# Altium integrated library Linear Technology PMIC-Switching Reg LT1074-LT8705.IntLib: 2252 symbols (part 31 of 124)
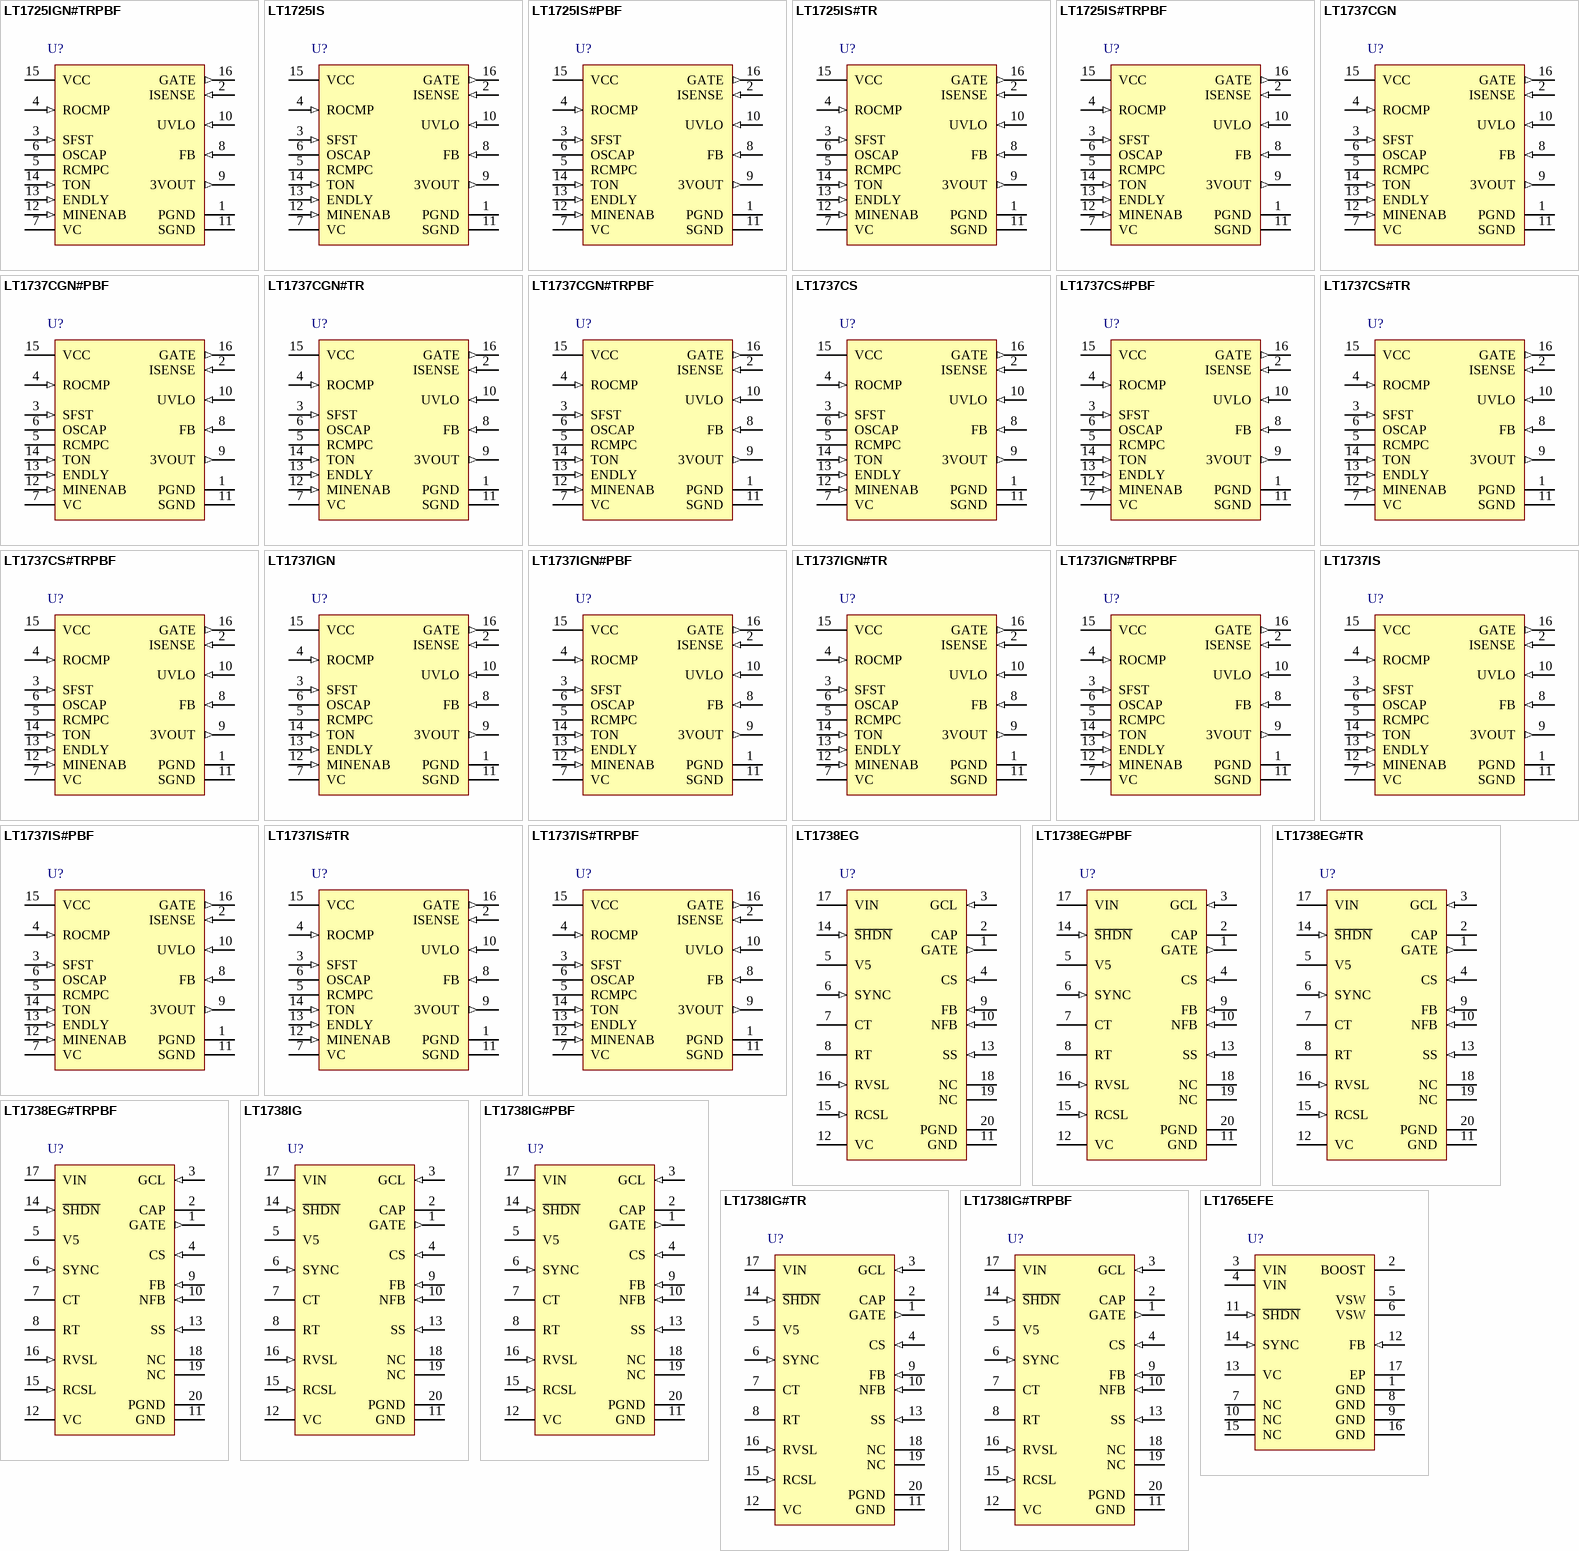
[diagram p101: symbols LT1725IGN#TRPBF to LT1765EFE]

## LT1737CGN#TR
designator U?
High Power Isolated Flyback Controller, 16-pin SOP (GN-16), 0 to 100 degC, Tape and Reel; Manufacturer: Linear Technology; PartNumber: LT1737CGN#TR; Number of Outputs: 1; PackageReference: GN-16; PackageDescription: 16-Pin Plastic SSOP, Body 4.9 x 3.9 mm, Pitch 0.635 mm; Supplier 1: Digi-Key; Supplier Part Number 1: LT1737CGN#TR-ND; RoHS: FALSE
footprint LT-GN-16_N (SOP, 16-Leads, Body 5x4mm, Pitch 0.635mm, IPC Medium Density)
footprint LT-GN-16_L (SOP, 16-Leads, Body 5x4mm, Pitch 0.635mm, IPC High Density)
footprint LT-GN-16_M (SOP, 16-Leads, Body 5x4mm, Pitch 0.635mm, IPC Low Density)
pins: 1 PGND (power) "The power ground pin carries the GATE node discharge current. This is typically a current spike of several hundred mA with a duration of tens of nanoseconds. It should be connected directly to a good quality ground plane.", 2 ISENSE (in) "Pin to measure switch current with external sense resistor. The sense resistor should be of a noninductive construction as high speed performance is essential. Proper grounding technique is also required to avoid distortion (See Datasheet)", 3 SFST (in) "Pin for optional external capacitor to effect soft-start function. See Applications Information for details.", 4 ROCMP (in) "Input pin for optional external load compensation resistor. Use of this pin allows nominal compensation for nonzero output impedance in the power transformer secondary circuit, including secondary winding impedance, output (See Datasheet)", 5 RCMPC "Pin for external filter capacitor for optional load compensation function. A common 0.1uF ceramic capacitor will suffice for most applications. See Applications Information for further details.", 6 OSCAP "Pin for external timing capacitor to set oscillator switching frequency. See Applications Information for details.", 7 VC "This is the control voltage pin which is the output of the feedback amplifier and the input of the current comparator. Frequency compensation of the overall loop is effected in most cases by placing a capacitor between this (See Datasheet)", 8 FB (in) "Input pin for external ¡°feedback¡± resistor divider. The ratio of this divider, times the internal bandgap (VBG) reference, times the effective output tothird winding transformer turns ratio is the primary determinant(See Datasheet)", 9 3VOUT (out) "Output pin for nominal 3V reference. This facilitates various user applications. This node is internally current limited for protection and is intended to drive either moderate capacitive loads of several hundred pF or less, (See Datasheet)", 10 UVLO (in), 11 SGND (power) "The signal ground pin is a clean ground. The internal reference, oscillator and feedback amplifier are referred to it. Keep the ground path connection to the FB pin, OSCAP capacitor and the VC compensation capacitor free of (See Datasheet)", 12 MINENAB (in) "Pin for external programming resistor to set minimum enable time. See Applications Information for details.", 13 ENDLY (in) "Pin for external programming resistor to set enable delay time. See Applications Information for details.", 14 TON (in) "Pin for external programming resistor to set switch minimum on time. See Applications Information for details.", 15 VCC (power), 16 GATE (out) "This is the gate drive to the external power MOSFET switch and has large dynamic currents flowing through it. Keep the trace to the MOSFET as short as possible to minimize electromagnetic radiation and voltage spikes. A (See Datasheet)"

## LT1737CGN#TRPBF
designator U?
High Power Isolated Flyback Controller, 16-pin SOP (GN-16), 0 to 100 degC, Pb-Free, Tape and Reel; Manufacturer: Linear Technology; PartNumber: LT1737CGN#TRPBF; Number of Outputs: 1; PackageReference: GN-16; PackageDescription: 16-Pin Plastic SSOP, Body 4.9 x 3.9 mm, Pitch 0.635 mm; Supplier 1: Digi-Key; Supplier Part Number 1: LT1737CGN#TRPBF-ND; RoHS: TRUE
footprint LT-GN-16_N (SOP, 16-Leads, Body 5x4mm, Pitch 0.635mm, IPC Medium Density)
footprint LT-GN-16_L (SOP, 16-Leads, Body 5x4mm, Pitch 0.635mm, IPC High Density)
footprint LT-GN-16_M (SOP, 16-Leads, Body 5x4mm, Pitch 0.635mm, IPC Low Density)
pins: 1 PGND (power) "The power ground pin carries the GATE node discharge current. This is typically a current spike of several hundred mA with a duration of tens of nanoseconds. It should be connected directly to a good quality ground plane.", 2 ISENSE (in) "Pin to measure switch current with external sense resistor. The sense resistor should be of a noninductive construction as high speed performance is essential. Proper grounding technique is also required to avoid distortion (See Datasheet)", 3 SFST (in) "Pin for optional external capacitor to effect soft-start function. See Applications Information for details.", 4 ROCMP (in) "Input pin for optional external load compensation resistor. Use of this pin allows nominal compensation for nonzero output impedance in the power transformer secondary circuit, including secondary winding impedance, output (See Datasheet)", 5 RCMPC "Pin for external filter capacitor for optional load compensation function. A common 0.1uF ceramic capacitor will suffice for most applications. See Applications Information for further details.", 6 OSCAP "Pin for external timing capacitor to set oscillator switching frequency. See Applications Information for details.", 7 VC "This is the control voltage pin which is the output of the feedback amplifier and the input of the current comparator. Frequency compensation of the overall loop is effected in most cases by placing a capacitor between this (See Datasheet)", 8 FB (in) "Input pin for external ¡°feedback¡± resistor divider. The ratio of this divider, times the internal bandgap (VBG) reference, times the effective output tothird winding transformer turns ratio is the primary determinant(See Datasheet)", 9 3VOUT (out) "Output pin for nominal 3V reference. This facilitates various user applications. This node is internally current limited for protection and is intended to drive either moderate capacitive loads of several hundred pF or less, (See Datasheet)", 10 UVLO (in), 11 SGND (power) "The signal ground pin is a clean ground. The internal reference, oscillator and feedback amplifier are referred to it. Keep the ground path connection to the FB pin, OSCAP capacitor and the VC compensation capacitor free of (See Datasheet)", 12 MINENAB (in) "Pin for external programming resistor to set minimum enable time. See Applications Information for details.", 13 ENDLY (in) "Pin for external programming resistor to set enable delay time. See Applications Information for details.", 14 TON (in) "Pin for external programming resistor to set switch minimum on time. See Applications Information for details.", 15 VCC (power), 16 GATE (out) "This is the gate drive to the external power MOSFET switch and has large dynamic currents flowing through it. Keep the trace to the MOSFET as short as possible to minimize electromagnetic radiation and voltage spikes. A (See Datasheet)"

## LT1737CS
designator U?
High Power Isolated Flyback Controller, 16-pin SOP (S-16), 0 to 100 degC; Manufacturer: Linear Technology; PartNumber: LT1737CS; Number of Outputs: 1; PackageReference: S-16; PackageDescription: 16-Pin Plastic Small Outline, Body 9.9 x 3.9 mm, Pitch 1.27 mm; Supplier 1: Digi-Key; Supplier Part Number 1: LT1737CS-ND; RoHS: FALSE
footprint LT-S-16_N (SOP, 16-Leads, Body 10x4mm, Pitch 1.27mm, IPC Medium Density)
footprint LT-S-16_L (SOP, 16-Leads, Body 10x4mm, Pitch 1.27mm, IPC High Density)
footprint LT-S-16_M (SOP, 16-Leads, Body 10x4mm, Pitch 1.27mm, IPC Low Density)
pins: 1 PGND (power) "The power ground pin carries the GATE node discharge current. This is typically a current spike of several hundred mA with a duration of tens of nanoseconds. It should be connected directly to a good quality ground plane.", 2 ISENSE (in) "Pin to measure switch current with external sense resistor. The sense resistor should be of a noninductive construction as high speed performance is essential. Proper grounding technique is also required to avoid distortion (See Datasheet)", 3 SFST (in) "Pin for optional external capacitor to effect soft-start function. See Applications Information for details.", 4 ROCMP (in) "Input pin for optional external load compensation resistor. Use of this pin allows nominal compensation for nonzero output impedance in the power transformer secondary circuit, including secondary winding impedance, output (See Datasheet)", 5 RCMPC "Pin for external filter capacitor for optional load compensation function. A common 0.1uF ceramic capacitor will suffice for most applications. See Applications Information for further details.", 6 OSCAP "Pin for external timing capacitor to set oscillator switching frequency. See Applications Information for details.", 7 VC "This is the control voltage pin which is the output of the feedback amplifier and the input of the current comparator. Frequency compensation of the overall loop is effected in most cases by placing a capacitor between this (See Datasheet)", 8 FB (in) "Input pin for external ¡°feedback¡± resistor divider. The ratio of this divider, times the internal bandgap (VBG) reference, times the effective output tothird winding transformer turns ratio is the primary determinant(See Datasheet)", 9 3VOUT (out) "Output pin for nominal 3V reference. This facilitates various user applications. This node is internally current limited for protection and is intended to drive either moderate capacitive loads of several hundred pF or less, (See Datasheet)", 10 UVLO (in), 11 SGND (power) "The signal ground pin is a clean ground. The internal reference, oscillator and feedback amplifier are referred to it. Keep the ground path connection to the FB pin, OSCAP capacitor and the VC compensation capacitor free of (See Datasheet)", 12 MINENAB (in) "Pin for external programming resistor to set minimum enable time. See Applications Information for details.", 13 ENDLY (in) "Pin for external programming resistor to set enable delay time. See Applications Information for details.", 14 TON (in) "Pin for external programming resistor to set switch minimum on time. See Applications Information for details.", 15 VCC (power), 16 GATE (out) "This is the gate drive to the external power MOSFET switch and has large dynamic currents flowing through it. Keep the trace to the MOSFET as short as possible to minimize electromagnetic radiation and voltage spikes. A (See Datasheet)"

## LT1737CS#PBF
designator U?
High Power Isolated Flyback Controller, 16-pin SOP (S-16), 0 to 100 degC, Pb-Free; Manufacturer: Linear Technology; PartNumber: LT1737CS#PBF; Number of Outputs: 1; PackageReference: S-16; PackageDescription: 16-Pin Plastic Small Outline, Body 9.9 x 3.9 mm, Pitch 1.27 mm; Supplier 1: Digi-Key; Supplier Part Number 1: LT1737CS#PBF-ND; RoHS: TRUE
footprint LT-S-16_N (SOP, 16-Leads, Body 10x4mm, Pitch 1.27mm, IPC Medium Density)
footprint LT-S-16_L (SOP, 16-Leads, Body 10x4mm, Pitch 1.27mm, IPC High Density)
footprint LT-S-16_M (SOP, 16-Leads, Body 10x4mm, Pitch 1.27mm, IPC Low Density)
pins: 1 PGND (power) "The power ground pin carries the GATE node discharge current. This is typically a current spike of several hundred mA with a duration of tens of nanoseconds. It should be connected directly to a good quality ground plane.", 2 ISENSE (in) "Pin to measure switch current with external sense resistor. The sense resistor should be of a noninductive construction as high speed performance is essential. Proper grounding technique is also required to avoid distortion (See Datasheet)", 3 SFST (in) "Pin for optional external capacitor to effect soft-start function. See Applications Information for details.", 4 ROCMP (in) "Input pin for optional external load compensation resistor. Use of this pin allows nominal compensation for nonzero output impedance in the power transformer secondary circuit, including secondary winding impedance, output (See Datasheet)", 5 RCMPC "Pin for external filter capacitor for optional load compensation function. A common 0.1uF ceramic capacitor will suffice for most applications. See Applications Information for further details.", 6 OSCAP "Pin for external timing capacitor to set oscillator switching frequency. See Applications Information for details.", 7 VC "This is the control voltage pin which is the output of the feedback amplifier and the input of the current comparator. Frequency compensation of the overall loop is effected in most cases by placing a capacitor between this (See Datasheet)", 8 FB (in) "Input pin for external ¡°feedback¡± resistor divider. The ratio of this divider, times the internal bandgap (VBG) reference, times the effective output tothird winding transformer turns ratio is the primary determinant(See Datasheet)", 9 3VOUT (out) "Output pin for nominal 3V reference. This facilitates various user applications. This node is internally current limited for protection and is intended to drive either moderate capacitive loads of several hundred pF or less, (See Datasheet)", 10 UVLO (in), 11 SGND (power) "The signal ground pin is a clean ground. The internal reference, oscillator and feedback amplifier are referred to it. Keep the ground path connection to the FB pin, OSCAP capacitor and the VC compensation capacitor free of (See Datasheet)", 12 MINENAB (in) "Pin for external programming resistor to set minimum enable time. See Applications Information for details.", 13 ENDLY (in) "Pin for external programming resistor to set enable delay time. See Applications Information for details.", 14 TON (in) "Pin for external programming resistor to set switch minimum on time. See Applications Information for details.", 15 VCC (power), 16 GATE (out) "This is the gate drive to the external power MOSFET switch and has large dynamic currents flowing through it. Keep the trace to the MOSFET as short as possible to minimize electromagnetic radiation and voltage spikes. A (See Datasheet)"

## LT1737CS#TR
designator U?
High Power Isolated Flyback Controller, 16-pin SOP (S-16), 0 to 100 degC, Tape and Reel; Manufacturer: Linear Technology; PartNumber: LT1737CS#TR; Number of Outputs: 1; PackageReference: S-16; PackageDescription: 16-Pin Plastic Small Outline, Body 9.9 x 3.9 mm, Pitch 1.27 mm; Supplier 1: Digi-Key; Supplier Part Number 1: LT1737CS#TR-ND; RoHS: FALSE
footprint LT-S-16_N (SOP, 16-Leads, Body 10x4mm, Pitch 1.27mm, IPC Medium Density)
footprint LT-S-16_L (SOP, 16-Leads, Body 10x4mm, Pitch 1.27mm, IPC High Density)
footprint LT-S-16_M (SOP, 16-Leads, Body 10x4mm, Pitch 1.27mm, IPC Low Density)
pins: 1 PGND (power) "The power ground pin carries the GATE node discharge current. This is typically a current spike of several hundred mA with a duration of tens of nanoseconds. It should be connected directly to a good quality ground plane.", 2 ISENSE (in) "Pin to measure switch current with external sense resistor. The sense resistor should be of a noninductive construction as high speed performance is essential. Proper grounding technique is also required to avoid distortion (See Datasheet)", 3 SFST (in) "Pin for optional external capacitor to effect soft-start function. See Applications Information for details.", 4 ROCMP (in) "Input pin for optional external load compensation resistor. Use of this pin allows nominal compensation for nonzero output impedance in the power transformer secondary circuit, including secondary winding impedance, output (See Datasheet)", 5 RCMPC "Pin for external filter capacitor for optional load compensation function. A common 0.1uF ceramic capacitor will suffice for most applications. See Applications Information for further details.", 6 OSCAP "Pin for external timing capacitor to set oscillator switching frequency. See Applications Information for details.", 7 VC "This is the control voltage pin which is the output of the feedback amplifier and the input of the current comparator. Frequency compensation of the overall loop is effected in most cases by placing a capacitor between this (See Datasheet)", 8 FB (in) "Input pin for external ¡°feedback¡± resistor divider. The ratio of this divider, times the internal bandgap (VBG) reference, times the effective output tothird winding transformer turns ratio is the primary determinant(See Datasheet)", 9 3VOUT (out) "Output pin for nominal 3V reference. This facilitates various user applications. This node is internally current limited for protection and is intended to drive either moderate capacitive loads of several hundred pF or less, (See Datasheet)", 10 UVLO (in), 11 SGND (power) "The signal ground pin is a clean ground. The internal reference, oscillator and feedback amplifier are referred to it. Keep the ground path connection to the FB pin, OSCAP capacitor and the VC compensation capacitor free of (See Datasheet)", 12 MINENAB (in) "Pin for external programming resistor to set minimum enable time. See Applications Information for details.", 13 ENDLY (in) "Pin for external programming resistor to set enable delay time. See Applications Information for details.", 14 TON (in) "Pin for external programming resistor to set switch minimum on time. See Applications Information for details.", 15 VCC (power), 16 GATE (out) "This is the gate drive to the external power MOSFET switch and has large dynamic currents flowing through it. Keep the trace to the MOSFET as short as possible to minimize electromagnetic radiation and voltage spikes. A (See Datasheet)"

## LT1737CS#TRPBF
designator U?
High Power Isolated Flyback Controller, 16-pin SOP (S-16), 0 to 100 degC, Pb-Free, Tape and Reel; Manufacturer: Linear Technology; PartNumber: LT1737CS#TRPBF; Number of Outputs: 1; PackageReference: S-16; PackageDescription: 16-Pin Plastic Small Outline, Body 9.9 x 3.9 mm, Pitch 1.27 mm; Supplier 1: Digi-Key; Supplier Part Number 1: LT1737CS#TRPBF-ND; RoHS: TRUE
footprint LT-S-16_N (SOP, 16-Leads, Body 10x4mm, Pitch 1.27mm, IPC Medium Density)
footprint LT-S-16_L (SOP, 16-Leads, Body 10x4mm, Pitch 1.27mm, IPC High Density)
footprint LT-S-16_M (SOP, 16-Leads, Body 10x4mm, Pitch 1.27mm, IPC Low Density)
pins: 1 PGND (power) "The power ground pin carries the GATE node discharge current. This is typically a current spike of several hundred mA with a duration of tens of nanoseconds. It should be connected directly to a good quality ground plane.", 2 ISENSE (in) "Pin to measure switch current with external sense resistor. The sense resistor should be of a noninductive construction as high speed performance is essential. Proper grounding technique is also required to avoid distortion (See Datasheet)", 3 SFST (in) "Pin for optional external capacitor to effect soft-start function. See Applications Information for details.", 4 ROCMP (in) "Input pin for optional external load compensation resistor. Use of this pin allows nominal compensation for nonzero output impedance in the power transformer secondary circuit, including secondary winding impedance, output (See Datasheet)", 5 RCMPC "Pin for external filter capacitor for optional load compensation function. A common 0.1uF ceramic capacitor will suffice for most applications. See Applications Information for further details.", 6 OSCAP "Pin for external timing capacitor to set oscillator switching frequency. See Applications Information for details.", 7 VC "This is the control voltage pin which is the output of the feedback amplifier and the input of the current comparator. Frequency compensation of the overall loop is effected in most cases by placing a capacitor between this (See Datasheet)", 8 FB (in) "Input pin for external ¡°feedback¡± resistor divider. The ratio of this divider, times the internal bandgap (VBG) reference, times the effective output tothird winding transformer turns ratio is the primary determinant(See Datasheet)", 9 3VOUT (out) "Output pin for nominal 3V reference. This facilitates various user applications. This node is internally current limited for protection and is intended to drive either moderate capacitive loads of several hundred pF or less, (See Datasheet)", 10 UVLO (in), 11 SGND (power) "The signal ground pin is a clean ground. The internal reference, oscillator and feedback amplifier are referred to it. Keep the ground path connection to the FB pin, OSCAP capacitor and the VC compensation capacitor free of (See Datasheet)", 12 MINENAB (in) "Pin for external programming resistor to set minimum enable time. See Applications Information for details.", 13 ENDLY (in) "Pin for external programming resistor to set enable delay time. See Applications Information for details.", 14 TON (in) "Pin for external programming resistor to set switch minimum on time. See Applications Information for details.", 15 VCC (power), 16 GATE (out) "This is the gate drive to the external power MOSFET switch and has large dynamic currents flowing through it. Keep the trace to the MOSFET as short as possible to minimize electromagnetic radiation and voltage spikes. A (See Datasheet)"

## LT1737IGN
designator U?
High Power Isolated Flyback Controller, 16-pin SOP (GN-16), -40 to 125 degC; Manufacturer: Linear Technology; PartNumber: LT1737IGN; Number of Outputs: 1; PackageReference: GN-16; PackageDescription: 16-Pin Plastic SSOP, Body 4.9 x 3.9 mm, Pitch 0.635 mm; Supplier 1: Digi-Key; Supplier Part Number 1: LT1737IGN-ND; RoHS: FALSE
footprint LT-GN-16_N (SOP, 16-Leads, Body 5x4mm, Pitch 0.635mm, IPC Medium Density)
footprint LT-GN-16_L (SOP, 16-Leads, Body 5x4mm, Pitch 0.635mm, IPC High Density)
footprint LT-GN-16_M (SOP, 16-Leads, Body 5x4mm, Pitch 0.635mm, IPC Low Density)
pins: 1 PGND (power) "The power ground pin carries the GATE node discharge current. This is typically a current spike of several hundred mA with a duration of tens of nanoseconds. It should be connected directly to a good quality ground plane.", 2 ISENSE (in) "Pin to measure switch current with external sense resistor. The sense resistor should be of a noninductive construction as high speed performance is essential. Proper grounding technique is also required to avoid distortion (See Datasheet)", 3 SFST (in) "Pin for optional external capacitor to effect soft-start function. See Applications Information for details.", 4 ROCMP (in) "Input pin for optional external load compensation resistor. Use of this pin allows nominal compensation for nonzero output impedance in the power transformer secondary circuit, including secondary winding impedance, output (See Datasheet)", 5 RCMPC "Pin for external filter capacitor for optional load compensation function. A common 0.1uF ceramic capacitor will suffice for most applications. See Applications Information for further details.", 6 OSCAP "Pin for external timing capacitor to set oscillator switching frequency. See Applications Information for details.", 7 VC "This is the control voltage pin which is the output of the feedback amplifier and the input of the current comparator. Frequency compensation of the overall loop is effected in most cases by placing a capacitor between this (See Datasheet)", 8 FB (in) "Input pin for external ¡°feedback¡± resistor divider. The ratio of this divider, times the internal bandgap (VBG) reference, times the effective output tothird winding transformer turns ratio is the primary determinant(See Datasheet)", 9 3VOUT (out) "Output pin for nominal 3V reference. This facilitates various user applications. This node is internally current limited for protection and is intended to drive either moderate capacitive loads of several hundred pF or less, (See Datasheet)", 10 UVLO (in), 11 SGND (power) "The signal ground pin is a clean ground. The internal reference, oscillator and feedback amplifier are referred to it. Keep the ground path connection to the FB pin, OSCAP capacitor and the VC compensation capacitor free of (See Datasheet)", 12 MINENAB (in) "Pin for external programming resistor to set minimum enable time. See Applications Information for details.", 13 ENDLY (in) "Pin for external programming resistor to set enable delay time. See Applications Information for details.", 14 TON (in) "Pin for external programming resistor to set switch minimum on time. See Applications Information for details.", 15 VCC (power), 16 GATE (out) "This is the gate drive to the external power MOSFET switch and has large dynamic currents flowing through it. Keep the trace to the MOSFET as short as possible to minimize electromagnetic radiation and voltage spikes. A (See Datasheet)"

## LT1737IGN#PBF
designator U?
High Power Isolated Flyback Controller, 16-pin SOP (GN-16), -40 to 125 degC, Pb-Free; Manufacturer: Linear Technology; PartNumber: LT1737IGN#PBF; Number of Outputs: 1; PackageReference: GN-16; PackageDescription: 16-Pin Plastic SSOP, Body 4.9 x 3.9 mm, Pitch 0.635 mm; Supplier 1: Digi-Key; Supplier Part Number 1: LT1737IGN#PBF-ND; RoHS: TRUE
footprint LT-GN-16_N (SOP, 16-Leads, Body 5x4mm, Pitch 0.635mm, IPC Medium Density)
footprint LT-GN-16_L (SOP, 16-Leads, Body 5x4mm, Pitch 0.635mm, IPC High Density)
footprint LT-GN-16_M (SOP, 16-Leads, Body 5x4mm, Pitch 0.635mm, IPC Low Density)
pins: 1 PGND (power) "The power ground pin carries the GATE node discharge current. This is typically a current spike of several hundred mA with a duration of tens of nanoseconds. It should be connected directly to a good quality ground plane.", 2 ISENSE (in) "Pin to measure switch current with external sense resistor. The sense resistor should be of a noninductive construction as high speed performance is essential. Proper grounding technique is also required to avoid distortion (See Datasheet)", 3 SFST (in) "Pin for optional external capacitor to effect soft-start function. See Applications Information for details.", 4 ROCMP (in) "Input pin for optional external load compensation resistor. Use of this pin allows nominal compensation for nonzero output impedance in the power transformer secondary circuit, including secondary winding impedance, output (See Datasheet)", 5 RCMPC "Pin for external filter capacitor for optional load compensation function. A common 0.1uF ceramic capacitor will suffice for most applications. See Applications Information for further details.", 6 OSCAP "Pin for external timing capacitor to set oscillator switching frequency. See Applications Information for details.", 7 VC "This is the control voltage pin which is the output of the feedback amplifier and the input of the current comparator. Frequency compensation of the overall loop is effected in most cases by placing a capacitor between this (See Datasheet)", 8 FB (in) "Input pin for external ¡°feedback¡± resistor divider. The ratio of this divider, times the internal bandgap (VBG) reference, times the effective output tothird winding transformer turns ratio is the primary determinant(See Datasheet)", 9 3VOUT (out) "Output pin for nominal 3V reference. This facilitates various user applications. This node is internally current limited for protection and is intended to drive either moderate capacitive loads of several hundred pF or less, (See Datasheet)", 10 UVLO (in), 11 SGND (power) "The signal ground pin is a clean ground. The internal reference, oscillator and feedback amplifier are referred to it. Keep the ground path connection to the FB pin, OSCAP capacitor and the VC compensation capacitor free of (See Datasheet)", 12 MINENAB (in) "Pin for external programming resistor to set minimum enable time. See Applications Information for details.", 13 ENDLY (in) "Pin for external programming resistor to set enable delay time. See Applications Information for details.", 14 TON (in) "Pin for external programming resistor to set switch minimum on time. See Applications Information for details.", 15 VCC (power), 16 GATE (out) "This is the gate drive to the external power MOSFET switch and has large dynamic currents flowing through it. Keep the trace to the MOSFET as short as possible to minimize electromagnetic radiation and voltage spikes. A (See Datasheet)"

## LT1737IGN#TR
designator U?
High Power Isolated Flyback Controller, 16-pin SOP (GN-16), -40 to 125 degC, Tape and Reel; Manufacturer: Linear Technology; PartNumber: LT1737IGN#TR; Number of Outputs: 1; PackageReference: GN-16; PackageDescription: 16-Pin Plastic SSOP, Body 4.9 x 3.9 mm, Pitch 0.635 mm; Supplier 1: Digi-Key; Supplier Part Number 1: LT1737IGNTR-ND; RoHS: FALSE
footprint LT-GN-16_N (SOP, 16-Leads, Body 5x4mm, Pitch 0.635mm, IPC Medium Density)
footprint LT-GN-16_L (SOP, 16-Leads, Body 5x4mm, Pitch 0.635mm, IPC High Density)
footprint LT-GN-16_M (SOP, 16-Leads, Body 5x4mm, Pitch 0.635mm, IPC Low Density)
pins: 1 PGND (power) "The power ground pin carries the GATE node discharge current. This is typically a current spike of several hundred mA with a duration of tens of nanoseconds. It should be connected directly to a good quality ground plane.", 2 ISENSE (in) "Pin to measure switch current with external sense resistor. The sense resistor should be of a noninductive construction as high speed performance is essential. Proper grounding technique is also required to avoid distortion (See Datasheet)", 3 SFST (in) "Pin for optional external capacitor to effect soft-start function. See Applications Information for details.", 4 ROCMP (in) "Input pin for optional external load compensation resistor. Use of this pin allows nominal compensation for nonzero output impedance in the power transformer secondary circuit, including secondary winding impedance, output (See Datasheet)", 5 RCMPC "Pin for external filter capacitor for optional load compensation function. A common 0.1uF ceramic capacitor will suffice for most applications. See Applications Information for further details.", 6 OSCAP "Pin for external timing capacitor to set oscillator switching frequency. See Applications Information for details.", 7 VC "This is the control voltage pin which is the output of the feedback amplifier and the input of the current comparator. Frequency compensation of the overall loop is effected in most cases by placing a capacitor between this (See Datasheet)", 8 FB (in) "Input pin for external ¡°feedback¡± resistor divider. The ratio of this divider, times the internal bandgap (VBG) reference, times the effective output tothird winding transformer turns ratio is the primary determinant(See Datasheet)", 9 3VOUT (out) "Output pin for nominal 3V reference. This facilitates various user applications. This node is internally current limited for protection and is intended to drive either moderate capacitive loads of several hundred pF or less, (See Datasheet)", 10 UVLO (in), 11 SGND (power) "The signal ground pin is a clean ground. The internal reference, oscillator and feedback amplifier are referred to it. Keep the ground path connection to the FB pin, OSCAP capacitor and the VC compensation capacitor free of (See Datasheet)", 12 MINENAB (in) "Pin for external programming resistor to set minimum enable time. See Applications Information for details.", 13 ENDLY (in) "Pin for external programming resistor to set enable delay time. See Applications Information for details.", 14 TON (in) "Pin for external programming resistor to set switch minimum on time. See Applications Information for details.", 15 VCC (power), 16 GATE (out) "This is the gate drive to the external power MOSFET switch and has large dynamic currents flowing through it. Keep the trace to the MOSFET as short as possible to minimize electromagnetic radiation and voltage spikes. A (See Datasheet)"

## LT1737IGN#TRPBF
designator U?
High Power Isolated Flyback Controller, 16-pin SOP (GN-16), -40 to 125 degC, Pb-Free, Tape and Reel; Manufacturer: Linear Technology; PartNumber: LT1737IGN#TRPBF; Number of Outputs: 1; PackageReference: GN-16; PackageDescription: 16-Pin Plastic SSOP, Body 4.9 x 3.9 mm, Pitch 0.635 mm; Supplier 1: Digi-Key; Supplier Part Number 1: LT1737IGN#TRPBF-ND; RoHS: TRUE
footprint LT-GN-16_N (SOP, 16-Leads, Body 5x4mm, Pitch 0.635mm, IPC Medium Density)
footprint LT-GN-16_L (SOP, 16-Leads, Body 5x4mm, Pitch 0.635mm, IPC High Density)
footprint LT-GN-16_M (SOP, 16-Leads, Body 5x4mm, Pitch 0.635mm, IPC Low Density)
pins: 1 PGND (power) "The power ground pin carries the GATE node discharge current. This is typically a current spike of several hundred mA with a duration of tens of nanoseconds. It should be connected directly to a good quality ground plane.", 2 ISENSE (in) "Pin to measure switch current with external sense resistor. The sense resistor should be of a noninductive construction as high speed performance is essential. Proper grounding technique is also required to avoid distortion (See Datasheet)", 3 SFST (in) "Pin for optional external capacitor to effect soft-start function. See Applications Information for details.", 4 ROCMP (in) "Input pin for optional external load compensation resistor. Use of this pin allows nominal compensation for nonzero output impedance in the power transformer secondary circuit, including secondary winding impedance, output (See Datasheet)", 5 RCMPC "Pin for external filter capacitor for optional load compensation function. A common 0.1uF ceramic capacitor will suffice for most applications. See Applications Information for further details.", 6 OSCAP "Pin for external timing capacitor to set oscillator switching frequency. See Applications Information for details.", 7 VC "This is the control voltage pin which is the output of the feedback amplifier and the input of the current comparator. Frequency compensation of the overall loop is effected in most cases by placing a capacitor between this (See Datasheet)", 8 FB (in) "Input pin for external ¡°feedback¡± resistor divider. The ratio of this divider, times the internal bandgap (VBG) reference, times the effective output tothird winding transformer turns ratio is the primary determinant(See Datasheet)", 9 3VOUT (out) "Output pin for nominal 3V reference. This facilitates various user applications. This node is internally current limited for protection and is intended to drive either moderate capacitive loads of several hundred pF or less, (See Datasheet)", 10 UVLO (in), 11 SGND (power) "The signal ground pin is a clean ground. The internal reference, oscillator and feedback amplifier are referred to it. Keep the ground path connection to the FB pin, OSCAP capacitor and the VC compensation capacitor free of (See Datasheet)", 12 MINENAB (in) "Pin for external programming resistor to set minimum enable time. See Applications Information for details.", 13 ENDLY (in) "Pin for external programming resistor to set enable delay time. See Applications Information for details.", 14 TON (in) "Pin for external programming resistor to set switch minimum on time. See Applications Information for details.", 15 VCC (power), 16 GATE (out) "This is the gate drive to the external power MOSFET switch and has large dynamic currents flowing through it. Keep the trace to the MOSFET as short as possible to minimize electromagnetic radiation and voltage spikes. A (See Datasheet)"

## LT1737IS
designator U?
High Power Isolated Flyback Controller, 16-pin SOP (S-16), -40 to 125 degC; Manufacturer: Linear Technology; PartNumber: LT1737IS; Number of Outputs: 1; PackageReference: S-16; PackageDescription: 16-Pin Plastic Small Outline, Body 9.9 x 3.9 mm, Pitch 1.27 mm; Supplier 1: Digi-Key; Supplier Part Number 1: LT1737IS-ND; RoHS: FALSE
footprint LT-S-16_N (SOP, 16-Leads, Body 10x4mm, Pitch 1.27mm, IPC Medium Density)
footprint LT-S-16_L (SOP, 16-Leads, Body 10x4mm, Pitch 1.27mm, IPC High Density)
footprint LT-S-16_M (SOP, 16-Leads, Body 10x4mm, Pitch 1.27mm, IPC Low Density)
pins: 1 PGND (power) "The power ground pin carries the GATE node discharge current. This is typically a current spike of several hundred mA with a duration of tens of nanoseconds. It should be connected directly to a good quality ground plane.", 2 ISENSE (in) "Pin to measure switch current with external sense resistor. The sense resistor should be of a noninductive construction as high speed performance is essential. Proper grounding technique is also required to avoid distortion (See Datasheet)", 3 SFST (in) "Pin for optional external capacitor to effect soft-start function. See Applications Information for details.", 4 ROCMP (in) "Input pin for optional external load compensation resistor. Use of this pin allows nominal compensation for nonzero output impedance in the power transformer secondary circuit, including secondary winding impedance, output (See Datasheet)", 5 RCMPC "Pin for external filter capacitor for optional load compensation function. A common 0.1uF ceramic capacitor will suffice for most applications. See Applications Information for further details.", 6 OSCAP "Pin for external timing capacitor to set oscillator switching frequency. See Applications Information for details.", 7 VC "This is the control voltage pin which is the output of the feedback amplifier and the input of the current comparator. Frequency compensation of the overall loop is effected in most cases by placing a capacitor between this (See Datasheet)", 8 FB (in) "Input pin for external ¡°feedback¡± resistor divider. The ratio of this divider, times the internal bandgap (VBG) reference, times the effective output tothird winding transformer turns ratio is the primary determinant(See Datasheet)", 9 3VOUT (out) "Output pin for nominal 3V reference. This facilitates various user applications. This node is internally current limited for protection and is intended to drive either moderate capacitive loads of several hundred pF or less, (See Datasheet)", 10 UVLO (in), 11 SGND (power) "The signal ground pin is a clean ground. The internal reference, oscillator and feedback amplifier are referred to it. Keep the ground path connection to the FB pin, OSCAP capacitor and the VC compensation capacitor free of (See Datasheet)", 12 MINENAB (in) "Pin for external programming resistor to set minimum enable time. See Applications Information for details.", 13 ENDLY (in) "Pin for external programming resistor to set enable delay time. See Applications Information for details.", 14 TON (in) "Pin for external programming resistor to set switch minimum on time. See Applications Information for details.", 15 VCC (power), 16 GATE (out) "This is the gate drive to the external power MOSFET switch and has large dynamic currents flowing through it. Keep the trace to the MOSFET as short as possible to minimize electromagnetic radiation and voltage spikes. A (See Datasheet)"

## LT1737IS#PBF
designator U?
High Power Isolated Flyback Controller, 16-pin SOP (S-16), -40 to 125 degC, Pb-Free; Manufacturer: Linear Technology; PartNumber: LT1737IS#PBF; Number of Outputs: 1; PackageReference: S-16; PackageDescription: 16-Pin Plastic Small Outline, Body 9.9 x 3.9 mm, Pitch 1.27 mm; Supplier 1: Digi-Key; Supplier Part Number 1: LT1737IS#PBF-ND; RoHS: TRUE
footprint LT-S-16_N (SOP, 16-Leads, Body 10x4mm, Pitch 1.27mm, IPC Medium Density)
footprint LT-S-16_L (SOP, 16-Leads, Body 10x4mm, Pitch 1.27mm, IPC High Density)
footprint LT-S-16_M (SOP, 16-Leads, Body 10x4mm, Pitch 1.27mm, IPC Low Density)
pins: 1 PGND (power) "The power ground pin carries the GATE node discharge current. This is typically a current spike of several hundred mA with a duration of tens of nanoseconds. It should be connected directly to a good quality ground plane.", 2 ISENSE (in) "Pin to measure switch current with external sense resistor. The sense resistor should be of a noninductive construction as high speed performance is essential. Proper grounding technique is also required to avoid distortion (See Datasheet)", 3 SFST (in) "Pin for optional external capacitor to effect soft-start function. See Applications Information for details.", 4 ROCMP (in) "Input pin for optional external load compensation resistor. Use of this pin allows nominal compensation for nonzero output impedance in the power transformer secondary circuit, including secondary winding impedance, output (See Datasheet)", 5 RCMPC "Pin for external filter capacitor for optional load compensation function. A common 0.1uF ceramic capacitor will suffice for most applications. See Applications Information for further details.", 6 OSCAP "Pin for external timing capacitor to set oscillator switching frequency. See Applications Information for details.", 7 VC "This is the control voltage pin which is the output of the feedback amplifier and the input of the current comparator. Frequency compensation of the overall loop is effected in most cases by placing a capacitor between this (See Datasheet)", 8 FB (in) "Input pin for external ¡°feedback¡± resistor divider. The ratio of this divider, times the internal bandgap (VBG) reference, times the effective output tothird winding transformer turns ratio is the primary determinant(See Datasheet)", 9 3VOUT (out) "Output pin for nominal 3V reference. This facilitates various user applications. This node is internally current limited for protection and is intended to drive either moderate capacitive loads of several hundred pF or less, (See Datasheet)", 10 UVLO (in), 11 SGND (power) "The signal ground pin is a clean ground. The internal reference, oscillator and feedback amplifier are referred to it. Keep the ground path connection to the FB pin, OSCAP capacitor and the VC compensation capacitor free of (See Datasheet)", 12 MINENAB (in) "Pin for external programming resistor to set minimum enable time. See Applications Information for details.", 13 ENDLY (in) "Pin for external programming resistor to set enable delay time. See Applications Information for details.", 14 TON (in) "Pin for external programming resistor to set switch minimum on time. See Applications Information for details.", 15 VCC (power), 16 GATE (out) "This is the gate drive to the external power MOSFET switch and has large dynamic currents flowing through it. Keep the trace to the MOSFET as short as possible to minimize electromagnetic radiation and voltage spikes. A (See Datasheet)"

## LT1737IS#TR
designator U?
High Power Isolated Flyback Controller, 16-pin SOP (S-16), -40 to 125 degC, Tape and Reel; Manufacturer: Linear Technology; PartNumber: LT1737IS#TR; Number of Outputs: 1; PackageReference: S-16; PackageDescription: 16-Pin Plastic Small Outline, Body 9.9 x 3.9 mm, Pitch 1.27 mm; Supplier 1: Digi-Key; Supplier Part Number 1: LT1737ISTR-ND; RoHS: FALSE
footprint LT-S-16_N (SOP, 16-Leads, Body 10x4mm, Pitch 1.27mm, IPC Medium Density)
footprint LT-S-16_L (SOP, 16-Leads, Body 10x4mm, Pitch 1.27mm, IPC High Density)
footprint LT-S-16_M (SOP, 16-Leads, Body 10x4mm, Pitch 1.27mm, IPC Low Density)
pins: 1 PGND (power) "The power ground pin carries the GATE node discharge current. This is typically a current spike of several hundred mA with a duration of tens of nanoseconds. It should be connected directly to a good quality ground plane.", 2 ISENSE (in) "Pin to measure switch current with external sense resistor. The sense resistor should be of a noninductive construction as high speed performance is essential. Proper grounding technique is also required to avoid distortion (See Datasheet)", 3 SFST (in) "Pin for optional external capacitor to effect soft-start function. See Applications Information for details.", 4 ROCMP (in) "Input pin for optional external load compensation resistor. Use of this pin allows nominal compensation for nonzero output impedance in the power transformer secondary circuit, including secondary winding impedance, output (See Datasheet)", 5 RCMPC "Pin for external filter capacitor for optional load compensation function. A common 0.1uF ceramic capacitor will suffice for most applications. See Applications Information for further details.", 6 OSCAP "Pin for external timing capacitor to set oscillator switching frequency. See Applications Information for details.", 7 VC "This is the control voltage pin which is the output of the feedback amplifier and the input of the current comparator. Frequency compensation of the overall loop is effected in most cases by placing a capacitor between this (See Datasheet)", 8 FB (in) "Input pin for external ¡°feedback¡± resistor divider. The ratio of this divider, times the internal bandgap (VBG) reference, times the effective output tothird winding transformer turns ratio is the primary determinant(See Datasheet)", 9 3VOUT (out) "Output pin for nominal 3V reference. This facilitates various user applications. This node is internally current limited for protection and is intended to drive either moderate capacitive loads of several hundred pF or less, (See Datasheet)", 10 UVLO (in), 11 SGND (power) "The signal ground pin is a clean ground. The internal reference, oscillator and feedback amplifier are referred to it. Keep the ground path connection to the FB pin, OSCAP capacitor and the VC compensation capacitor free of (See Datasheet)", 12 MINENAB (in) "Pin for external programming resistor to set minimum enable time. See Applications Information for details.", 13 ENDLY (in) "Pin for external programming resistor to set enable delay time. See Applications Information for details.", 14 TON (in) "Pin for external programming resistor to set switch minimum on time. See Applications Information for details.", 15 VCC (power), 16 GATE (out) "This is the gate drive to the external power MOSFET switch and has large dynamic currents flowing through it. Keep the trace to the MOSFET as short as possible to minimize electromagnetic radiation and voltage spikes. A (See Datasheet)"

## LT1737IS#TRPBF
designator U?
High Power Isolated Flyback Controller, 16-pin SOP (S-16), -40 to 125 degC, Pb-Free, Tape and Reel; Manufacturer: Linear Technology; PartNumber: LT1737IS#TRPBF; Number of Outputs: 1; PackageReference: S-16; PackageDescription: 16-Pin Plastic Small Outline, Body 9.9 x 3.9 mm, Pitch 1.27 mm; Supplier 1: Digi-Key; Supplier Part Number 1: LT1737IS#TRPBF-ND; RoHS: TRUE
footprint LT-S-16_N (SOP, 16-Leads, Body 10x4mm, Pitch 1.27mm, IPC Medium Density)
footprint LT-S-16_L (SOP, 16-Leads, Body 10x4mm, Pitch 1.27mm, IPC High Density)
footprint LT-S-16_M (SOP, 16-Leads, Body 10x4mm, Pitch 1.27mm, IPC Low Density)
pins: 1 PGND (power) "The power ground pin carries the GATE node discharge current. This is typically a current spike of several hundred mA with a duration of tens of nanoseconds. It should be connected directly to a good quality ground plane.", 2 ISENSE (in) "Pin to measure switch current with external sense resistor. The sense resistor should be of a noninductive construction as high speed performance is essential. Proper grounding technique is also required to avoid distortion (See Datasheet)", 3 SFST (in) "Pin for optional external capacitor to effect soft-start function. See Applications Information for details.", 4 ROCMP (in) "Input pin for optional external load compensation resistor. Use of this pin allows nominal compensation for nonzero output impedance in the power transformer secondary circuit, including secondary winding impedance, output (See Datasheet)", 5 RCMPC "Pin for external filter capacitor for optional load compensation function. A common 0.1uF ceramic capacitor will suffice for most applications. See Applications Information for further details.", 6 OSCAP "Pin for external timing capacitor to set oscillator switching frequency. See Applications Information for details.", 7 VC "This is the control voltage pin which is the output of the feedback amplifier and the input of the current comparator. Frequency compensation of the overall loop is effected in most cases by placing a capacitor between this (See Datasheet)", 8 FB (in) "Input pin for external ¡°feedback¡± resistor divider. The ratio of this divider, times the internal bandgap (VBG) reference, times the effective output tothird winding transformer turns ratio is the primary determinant(See Datasheet)", 9 3VOUT (out) "Output pin for nominal 3V reference. This facilitates various user applications. This node is internally current limited for protection and is intended to drive either moderate capacitive loads of several hundred pF or less, (See Datasheet)", 10 UVLO (in), 11 SGND (power) "The signal ground pin is a clean ground. The internal reference, oscillator and feedback amplifier are referred to it. Keep the ground path connection to the FB pin, OSCAP capacitor and the VC compensation capacitor free of (See Datasheet)", 12 MINENAB (in) "Pin for external programming resistor to set minimum enable time. See Applications Information for details.", 13 ENDLY (in) "Pin for external programming resistor to set enable delay time. See Applications Information for details.", 14 TON (in) "Pin for external programming resistor to set switch minimum on time. See Applications Information for details.", 15 VCC (power), 16 GATE (out) "This is the gate drive to the external power MOSFET switch and has large dynamic currents flowing through it. Keep the trace to the MOSFET as short as possible to minimize electromagnetic radiation and voltage spikes. A (See Datasheet)"